# EAGLE library part TPS61200 (library Airquality_Sensor)
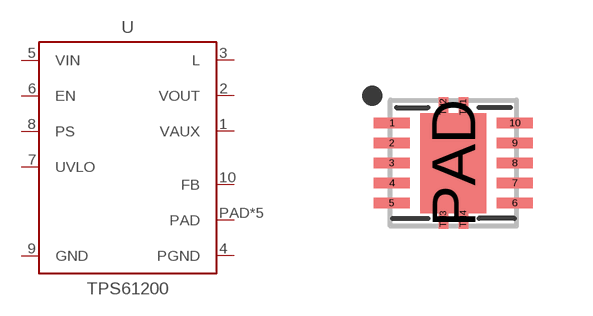
[diagram p2: symbol with the pads of QFN50P300X300X80-15T250X175; footprint QFN50P300X300X80-15T250X175]

Designator prefix U

## TPS61200DSC_S-PWSON-N10  [QFN50P300X300X80-15T250X175]
1  VAUX
2  VOUT
3  L
4  PGND
5  VIN
6  EN
7  UVLO
8  PS
9  GND
10  FB
PAD  PAD
TH1  PAD
TH2  PAD
TH3  PAD
TH4  PAD

## Footprint QFN50P300X300X80-15T250X175 (pad centres in mm)
14-QFN, 0.50 mm pitch, 3.00 X 3.00 X 0.80 mm body, 1.75 X 2.50 mm thermal pad 14-pin QFN package with 0.50 mm pitch with body size 3.00 X 3.00 X 0.80 mm and thermal pad size 1.75 X 2.50 mm
smd 0.896 x 0.264: 1 -1.537,1; 2 -1.537,0.5; 3 -1.537,0; 4 -1.537,-0.5; 5 -1.537,-1; 6 1.537,-1; 7 1.537,-0.5; 8 1.537,0; 9 1.537,0.5; 10 1.537,1
smd 1.65 x 2.5: PAD 0,0
smd 0.23 x 0.5: TH1 0.25,1.4; TH2 -0.25,1.4; TH3 -0.25,-1.4; TH4 0.25,-1.4